# Altium schematic symbol library ICs_Memory.SchLib: 23 symbols
Pins are listed as number, name and electrical type; pins without a type are passive.

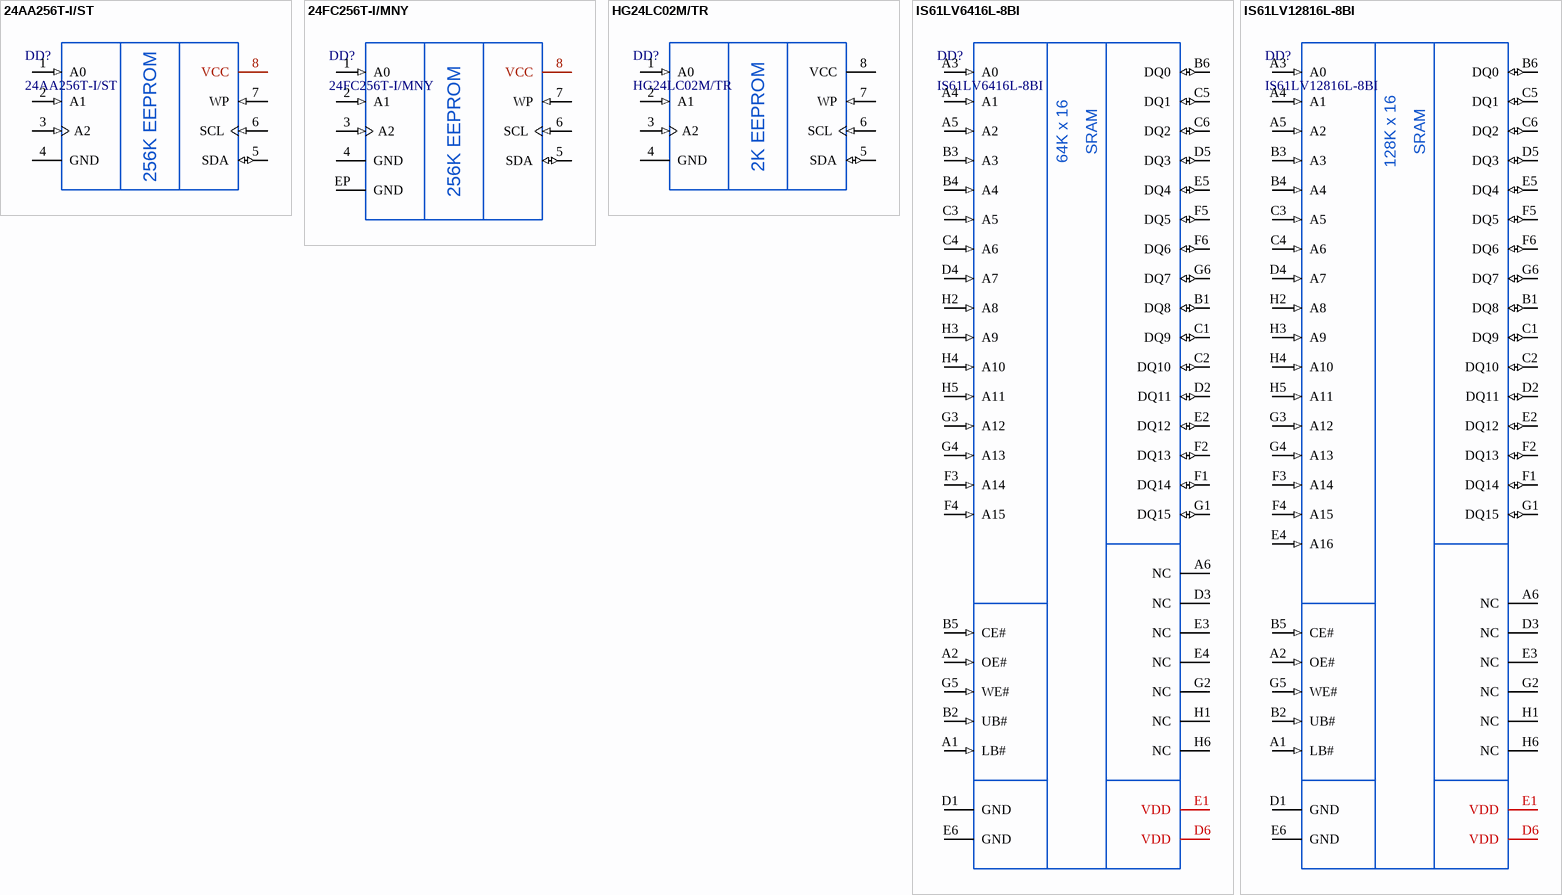
[diagram p0: symbols 24AA256T-I/ST to IS61LV12816L-8BI]

## 24AA256T-I/ST
designator DD?
400kHz 256K I2C Serial EEPROM; Manufacturer: Microchip; Marking: 4AD; ItemType: IC; Package: TSSOP-8; PartNumber: 24AA256T-I/ST; ItemSubType: EEPROM; Mounting: SMD
footprint TSSOP8_JEDEC_MO153AA (TSSOP, 8-Leads, Body 3.0x4.40mm, Pitch 0.65mm)
footprint TSSOP8_WITH_SOIC8 (TSSOP, 8-Leads, Body 3.0x4.40mm, Pitch 0.65mm)
pins: 1 A0 (in), 2 A1 (in), 3 A2 (in), 4 GND, 5 SDA (io), 6 SCL (in), 7 WP (in), 8 VCC (power)
text: 256K EEPROM

## 24FC256T-I/MNY
designator DD?
1MHz 256K I2C Serial EEPROM; Manufacturer: Microchip; Marking: EF8; ItemType: IC; Package: TDFN-8; PartNumber: 24FC256T-I/MNY; ItemSubType: EEPROM; Mounting: SMD
footprint TDFN8_EEPROM (TDFN-8 2mm x 3mm, 0.5mm pitch)
pins: 1 A0 (in), 2 A1 (in), 3 A2 (in), 4 GND, 5 SDA (io), 6 SCL (in), 7 WP (in), 8 VCC (power), EP GND
text: 256K EEPROM

## HG24LC02M/TR
designator DD?
2K I2C Serial EEPROM; Manufacturer: HGSemi; Marking: 24LC02; ItemType: IC; Package: SOIC-8; PartNumber: HG24LC02M/TR; ItemSubType: EEPROM; Mounting: SMD
footprint SOIC8_JEDEC_MS012AA (SOIC, 8-Leads, Body 3.90x4.90mm, Pitch 1.27mm)
footprint SOIC8_AND_SOT235 (SOIC, 8-Leads, Body 3.90x4.90mm, Pitch 1.27mm for EEPROM)
pins: 1 A0 (in), 2 A1 (in), 3 A2 (in), 4 GND, 5 SDA (io), 6 SCL (in), 7 WP (in), 8 VCC (power)
text: 2K EEPROM

## IS61LV6416L-8BI
designator DD?
64K X 16 High-Speed CMOS Static Ram With 3.3V Supply; Manufacturer: ISSI; AltManufacturer1: IS61LV6416-8BI; ItemType: IC; ItemSubType: SRAM; PartNumber: IS61LV6416L-8BI; Package: BGA-48; Alternative1: ISSI; Mounting: SMD
footprint BGA48_SRAM (BGA, 48-Leads, Body 6.00x8.00mmx1.20mm, Pitch 0.75mm)
pins: A1 LB# (in), A2 OE# (in), A3 A0 (in), A4 A1 (in), A5 A2 (in), A6 NC (hiz), B1 DQ8 (io), B2 UB# (in), B3 A3 (in), B4 A4 (in), B5 CE# (in), B6 DQ0 (io), C1 DQ9 (io), C2 DQ10 (io), C3 A5 (in), C4 A6 (in), C5 DQ1 (io), C6 DQ2 (io), D1 GND, D2 DQ11 (io), D3 NC (hiz), D4 A7 (in), D5 DQ3 (io), D6 VDD (power), E1 VDD (power), E2 DQ12 (io), E3 NC (hiz), E4 NC (hiz), E5 DQ4 (io), E6 GND, F1 DQ14 (io), F2 DQ13 (io), F3 A14 (in), F4 A15 (in), F5 DQ5 (io), F6 DQ6 (io), G1 DQ15 (io), G2 NC (hiz), G3 A12 (in), G4 A13 (in), G5 WE# (in), G6 DQ7 (io), H1 NC (hiz), H2 A8 (in), H3 A9 (in), H4 A10 (in), H5 A11 (in), H6 NC (hiz)
text: 64K x 16

## IS61LV12816L-8BI
designator DD?
128K X 16 High-Speed CMOS Static Ram With 3.3V Supply; Manufacturer: ISSO; ItemType: IC; ItemSubType: SRAM; PartNumber: IS61LV12816L-8BI; Package: BGA-48; Mounting: SMD
footprint BGA48_SRAM (BGA, 48-Leads, Body 6.00x8.00mmx1.20mm, Pitch 0.75mm)
pins: A1 LB# (in), A2 OE# (in), A3 A0 (in), A4 A1 (in), A5 A2 (in), A6 NC (hiz), B1 DQ8 (io), B2 UB# (in), B3 A3 (in), B4 A4 (in), B5 CE# (in), B6 DQ0 (io), C1 DQ9 (io), C2 DQ10 (io), C3 A5 (in), C4 A6 (in), C5 DQ1 (io), C6 DQ2 (io), D1 GND, D2 DQ11 (io), D3 NC (hiz), D4 A7 (in), D5 DQ3 (io), D6 VDD (power), E1 VDD (power), E2 DQ12 (io), E3 NC (hiz), E4 A16 (in), E5 DQ4 (io), E6 GND, F1 DQ14 (io), F2 DQ13 (io), F3 A14 (in), F4 A15 (in), F5 DQ5 (io), F6 DQ6 (io), G1 DQ15 (io), G2 NC (hiz), G3 A12 (in), G4 A13 (in), G5 WE# (in), G6 DQ7 (io), H1 NC (hiz), H2 A8 (in), H3 A9 (in), H4 A10 (in), H5 A11 (in), H6 NC (hiz)
text: 128K x 16

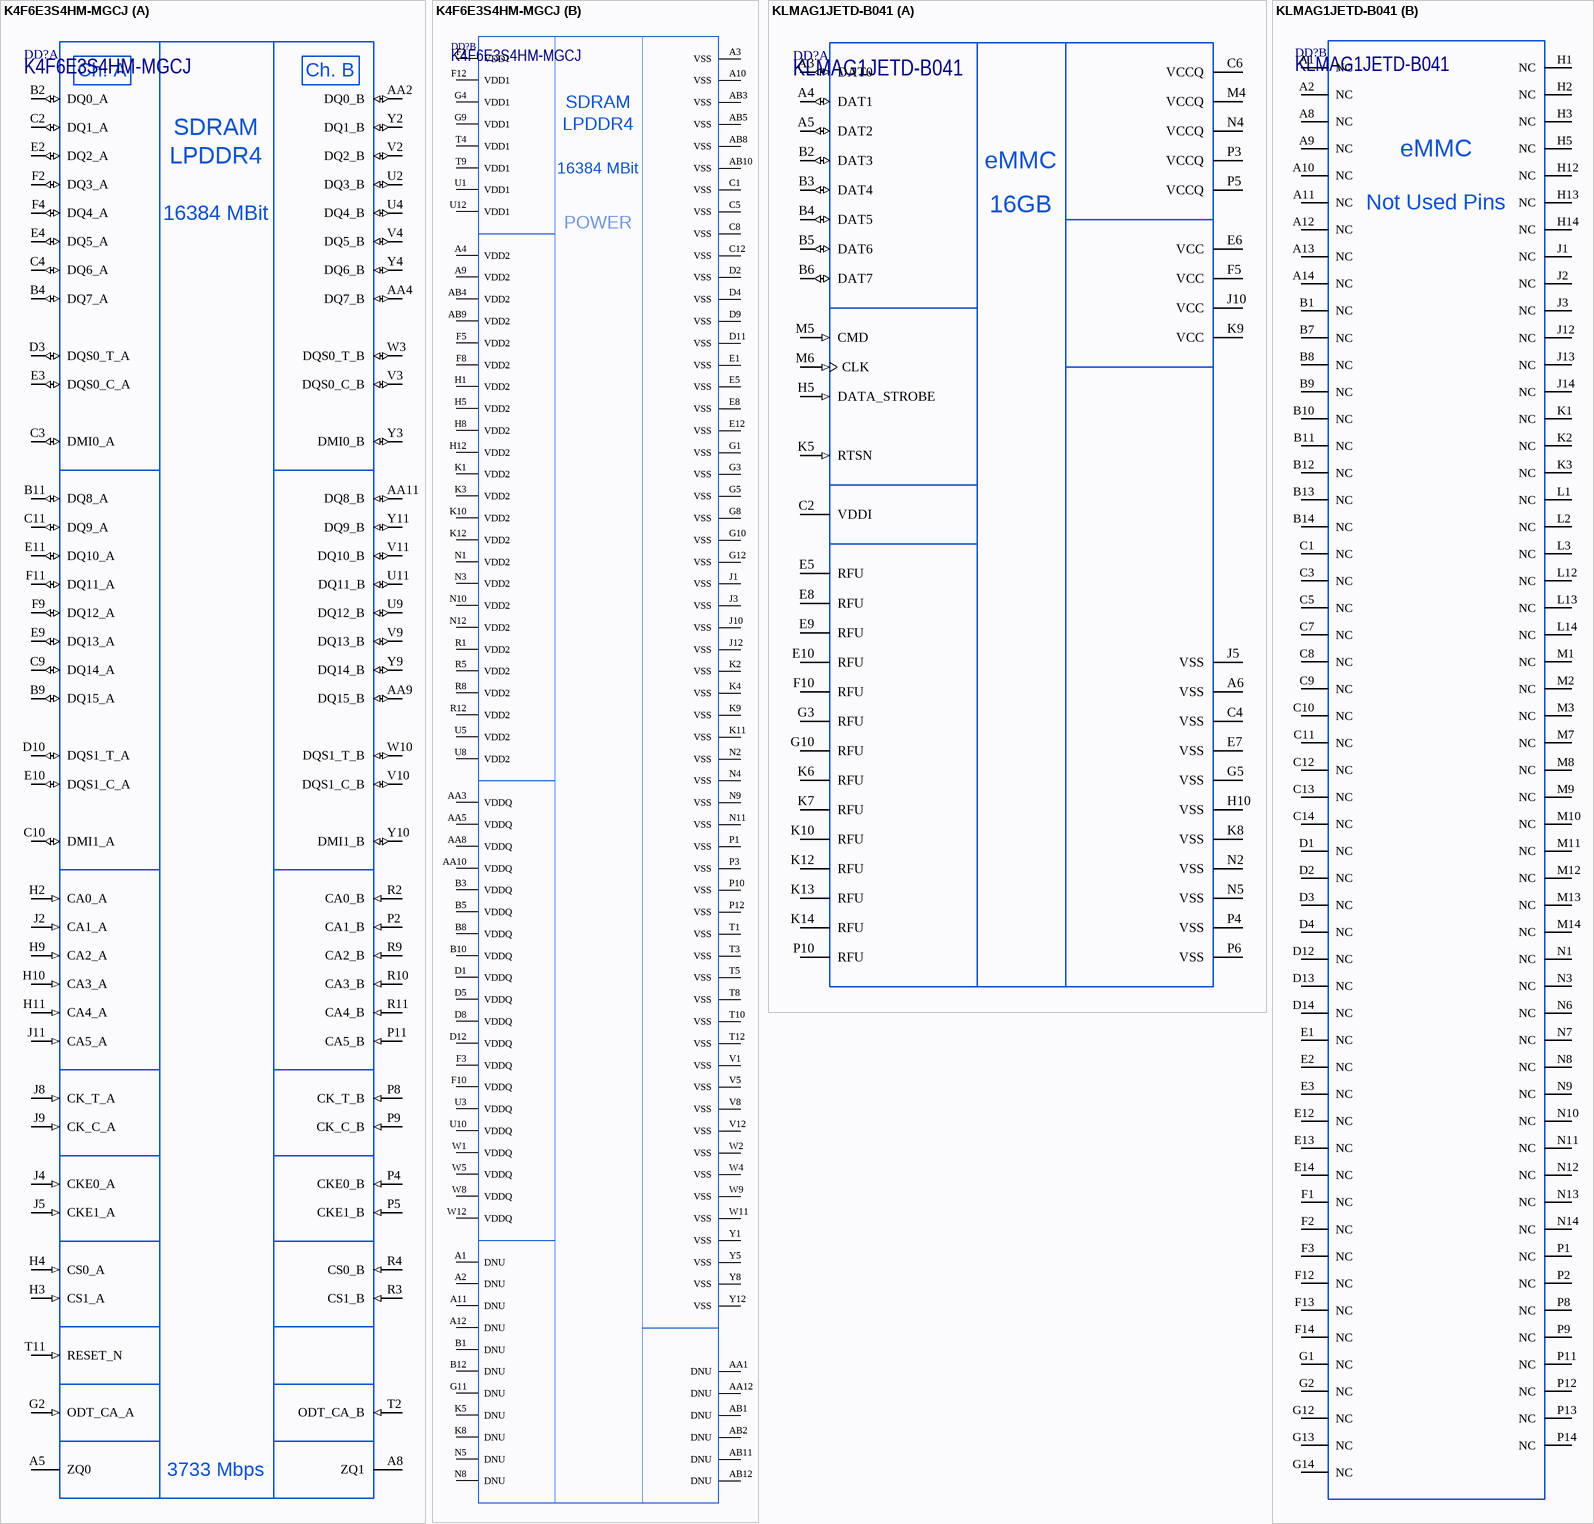
[diagram p1: symbols K4F6E3S4HM-MGCJ to KLMAG1JETD-B041]

## K4F6E3S4HM-MGCJ
designator DD?
16Gb LPDDR4 SDRAM (64Mb x 16 DQ x 8 banks x 2 channels); Manufacturer: Samsung; ItemType: IC; Package: FBGA-200 (10x15mm); PartNumber: K4F6E3S4HM-MGCJ; ItemSubType: LPDDR4; Mounting: SMD
footprint FBGA200_LPDDR4 (BGA, 200-Leads, Body 10,00x15,00mmx0,90mm, Pitch 0,65mm)
part A pins: A5 ZQ0, A8 ZQ1, AA2 DQ0_B (io), AA4 DQ7_B (io), AA9 DQ15_B (io), AA11 DQ8_B (io), B2 DQ0_A (io), B4 DQ7_A (io), B9 DQ15_A (io), B11 DQ8_A (io), C2 DQ1_A (io), C3 DMI0_A (io), C4 DQ6_A (io), C9 DQ14_A (io), C10 DMI1_A (io), C11 DQ9_A (io), D3 DQS0_T_A (io), D10 DQS1_T_A (io), E2 DQ2_A (io), E3 DQS0_C_A (io), E4 DQ5_A (io), E9 DQ13_A (io), E10 DQS1_C_A (io), E11 DQ10_A (io), F2 DQ3_A (io), F4 DQ4_A (io), F9 DQ12_A (io), F11 DQ11_A (io), G2 ODT_CA_A (in), H2 CA0_A (in), H3 CS1_A (in), H4 CS0_A (in), H9 CA2_A (in), H10 CA3_A (in), H11 CA4_A (in), J2 CA1_A (in), J4 CKE0_A (in), J5 CKE1_A (in), J8 CK_T_A (in), J9 CK_C_A (in), J11 CA5_A (in), P2 CA1_B (in), P4 CKE0_B (in), P5 CKE1_B (in), P8 CK_T_B (in), P9 CK_C_B (in), P11 CA5_B (in), R2 CA0_B (in), R3 CS1_B (in), R4 CS0_B (in), R9 CA2_B (in), R10 CA3_B (in), R11 CA4_B (in), T2 ODT_CA_B (in), T11 RESET_N (in), U2 DQ3_B (io), U4 DQ4_B (io), U9 DQ12_B (io), U11 DQ11_B (io), V2 DQ2_B (io), V3 DQS0_C_B (io), V4 DQ5_B (io), V9 DQ13_B (io), V10 DQS1_C_B (io), V11 DQ10_B (io), W3 DQS0_T_B (io), W10 DQS1_T_B (io), Y2 DQ1_B (io), Y3 DMI0_B (io), Y4 DQ6_B (io), Y9 DQ14_B (io), Y10 DMI1_B (io), Y11 DQ9_B (io)
part B pins: A1 DNU (hiz), A2 DNU (hiz), A3 VSS, A4 VDD2 (power), A9 VDD2 (power), A10 VSS, A11 DNU (hiz), A12 DNU (hiz), AA1 DNU (hiz), AA3 VDDQ (power), AA5 VDDQ (power), AA8 VDDQ (power), AA10 VDDQ (power), AA12 DNU (hiz), AB1 DNU (hiz), AB2 DNU (hiz), AB3 VSS, AB4 VDD2 (power), AB5 VSS, AB8 VSS, AB9 VDD2 (power), AB10 VSS, AB11 DNU (hiz), AB12 DNU (hiz), B1 DNU (hiz), B3 VDDQ (power), B5 VDDQ (power), B8 VDDQ (power), B10 VDDQ (power), B12 DNU (hiz), C1 VSS, C5 VSS, C8 VSS, C12 VSS, D1 VDDQ (power), D2 VSS, D4 VSS, D5 VDDQ (power), D8 VDDQ (power), D9 VSS, D11 VSS, D12 VDDQ (power), E1 VSS, E5 VSS, E8 VSS, E12 VSS, F1 VDD1 (power), F3 VDDQ (power), F5 VDD2 (power), F8 VDD2 (power), F10 VDDQ (power), F12 VDD1 (power), G1 VSS, G3 VSS, G4 VDD1 (power), G5 VSS, G8 VSS, G9 VDD1 (power), G10 VSS, G11 DNU (hiz), G12 VSS, H1 VDD2 (power), H5 VDD2 (power), H8 VDD2 (power), H12 VDD2 (power), J1 VSS, J3 VSS, J10 VSS, J12 VSS, K1 VDD2 (power), K2 VSS, K3 VDD2 (power), K4 VSS, K5 DNU (hiz), K8 DNU (hiz), K9 VSS, K10 VDD2 (power), K11 VSS, K12 VDD2 (power), N1 VDD2 (power), N2 VSS, N3 VDD2 (power), N4 VSS, N5 DNU (hiz), N8 DNU (hiz), N9 VSS, N10 VDD2 (power), N11 VSS, N12 VDD2 (power), P1 VSS, P3 VSS, P10 VSS, P12 VSS, R1 VDD2 (power), R5 VDD2 (power), R8 VDD2 (power), R12 VDD2 (power), T1 VSS, T3 VSS, T4 VDD1 (power), T5 VSS, T8 VSS, T9 VDD1 (power), T10 VSS, T12 VSS, U1 VDD1 (power), U3 VDDQ (power), U5 VDD2 (power), U8 VDD2 (power), U10 VDDQ (power), U12 VDD1 (power), V1 VSS, V5 VSS, V8 VSS, V12 VSS, W1 VDDQ (power), W2 VSS, W4 VSS, W5 VDDQ (power), W8 VDDQ (power), W9 VSS, W11 VSS, W12 VDDQ (power), Y1 VSS, Y5 VSS, Y8 VSS, Y12 VSS
part A text: Ch. A; Ch. B; SDRAM; 16384 MBit; 3733 Mbps
part B text: SDRAM; 16384 MBit; POWER

## KLMAG1JETD-B041
designator DD?
eMMC 5.1 Flash memory, 16GB; Manufacturer: Samsung; ItemType: IC; Package: BGA-153 (11.5x13mm); PartNumber: KLMAG1JETD-B041; ItemSubType: eMMC; Mounting: SMD
footprint WFBGA-153 (WFBGA-153, 153-Leads, Body 11.50x13.00mm, Pitch 0.50mm)
part A pins: A3 DAT0 (io), A4 DAT1 (io), A5 DAT2 (io), A6 VSS, B2 DAT3 (io), B3 DAT4 (io), B4 DAT5 (io), B5 DAT6 (io), B6 DAT7 (io), C2 VDDI (power), C4 VSS, C6 VCCQ (power), E5 RFU (hiz), E6 VCC (power), E7 VSS, E8 RFU (hiz), E9 RFU (hiz), E10 RFU (hiz), F5 VCC (power), F10 RFU (hiz), G3 RFU (hiz), G5 VSS, G10 RFU (hiz), H5 DATA_STROBE (in), H10 VSS, J5 VSS, J10 VCC (power), K5 RTSN (in), K6 RFU (hiz), K7 RFU (hiz), K8 VSS, K9 VCC (power), K10 RFU (hiz), K12 RFU (hiz), K13 RFU (hiz), K14 RFU (hiz), M4 VCCQ (power), M5 CMD (in), M6 CLK (in), N2 VSS, N4 VCCQ (power), N5 VSS, P3 VCCQ (power), P4 VSS, P5 VCCQ (power), P6 VSS, P10 RFU (hiz)
part B pins: A1 NC (hiz), A2 NC (hiz), A8 NC (hiz), A9 NC (hiz), A10 NC (hiz), A11 NC (hiz), A12 NC (hiz), A13 NC (hiz), A14 NC (hiz), B1 NC (hiz), B7 NC (hiz), B8 NC (hiz), B9 NC (hiz), B10 NC (hiz), B11 NC (hiz), B12 NC (hiz), B13 NC (hiz), B14 NC (hiz), C1 NC (hiz), C3 NC (hiz), C5 NC (hiz), C7 NC (hiz), C8 NC (hiz), C9 NC (hiz), C10 NC (hiz), C11 NC (hiz), C12 NC (hiz), C13 NC (hiz), C14 NC (hiz), D1 NC (hiz), D2 NC (hiz), D3 NC (hiz), D4 NC (hiz), D12 NC (hiz), D13 NC (hiz), D14 NC (hiz), E1 NC (hiz), E2 NC (hiz), E3 NC (hiz), E12 NC (hiz), E13 NC (hiz), E14 NC (hiz), F1 NC (hiz), F2 NC (hiz), F3 NC (hiz), F12 NC (hiz), F13 NC (hiz), F14 NC (hiz), G1 NC (hiz), G2 NC (hiz), G12 NC (hiz), G13 NC (hiz), G14 NC (hiz), H1 NC (hiz), H2 NC (hiz), H3 NC (hiz), H5 NC (hiz), H12 NC (hiz), H13 NC (hiz), H14 NC (hiz), J1 NC (hiz), J2 NC (hiz), J3 NC (hiz), J12 NC (hiz), J13 NC (hiz), J14 NC (hiz), K1 NC (hiz), K2 NC (hiz), K3 NC (hiz), L1 NC (hiz), L2 NC (hiz), L3 NC (hiz), L12 NC (hiz), L13 NC (hiz), L14 NC (hiz), M1 NC (hiz), M2 NC (hiz), M3 NC (hiz), M7 NC (hiz), M8 NC (hiz), M9 NC (hiz), M10 NC (hiz), M11 NC (hiz), M12 NC (hiz), M13 NC (hiz), M14 NC (hiz), N1 NC (hiz), N3 NC (hiz), N6 NC (hiz), N7 NC (hiz), N8 NC (hiz), N9 NC (hiz), N10 NC (hiz), N11 NC (hiz), N12 NC (hiz), N13 NC (hiz), N14 NC (hiz), P1 NC (hiz), P2 NC (hiz), P8 NC (hiz), P9 NC (hiz), P11 NC (hiz), P12 NC (hiz), P13 NC (hiz), P14 NC (hiz)
part A text: 16GB
part B text: Not Used Pins

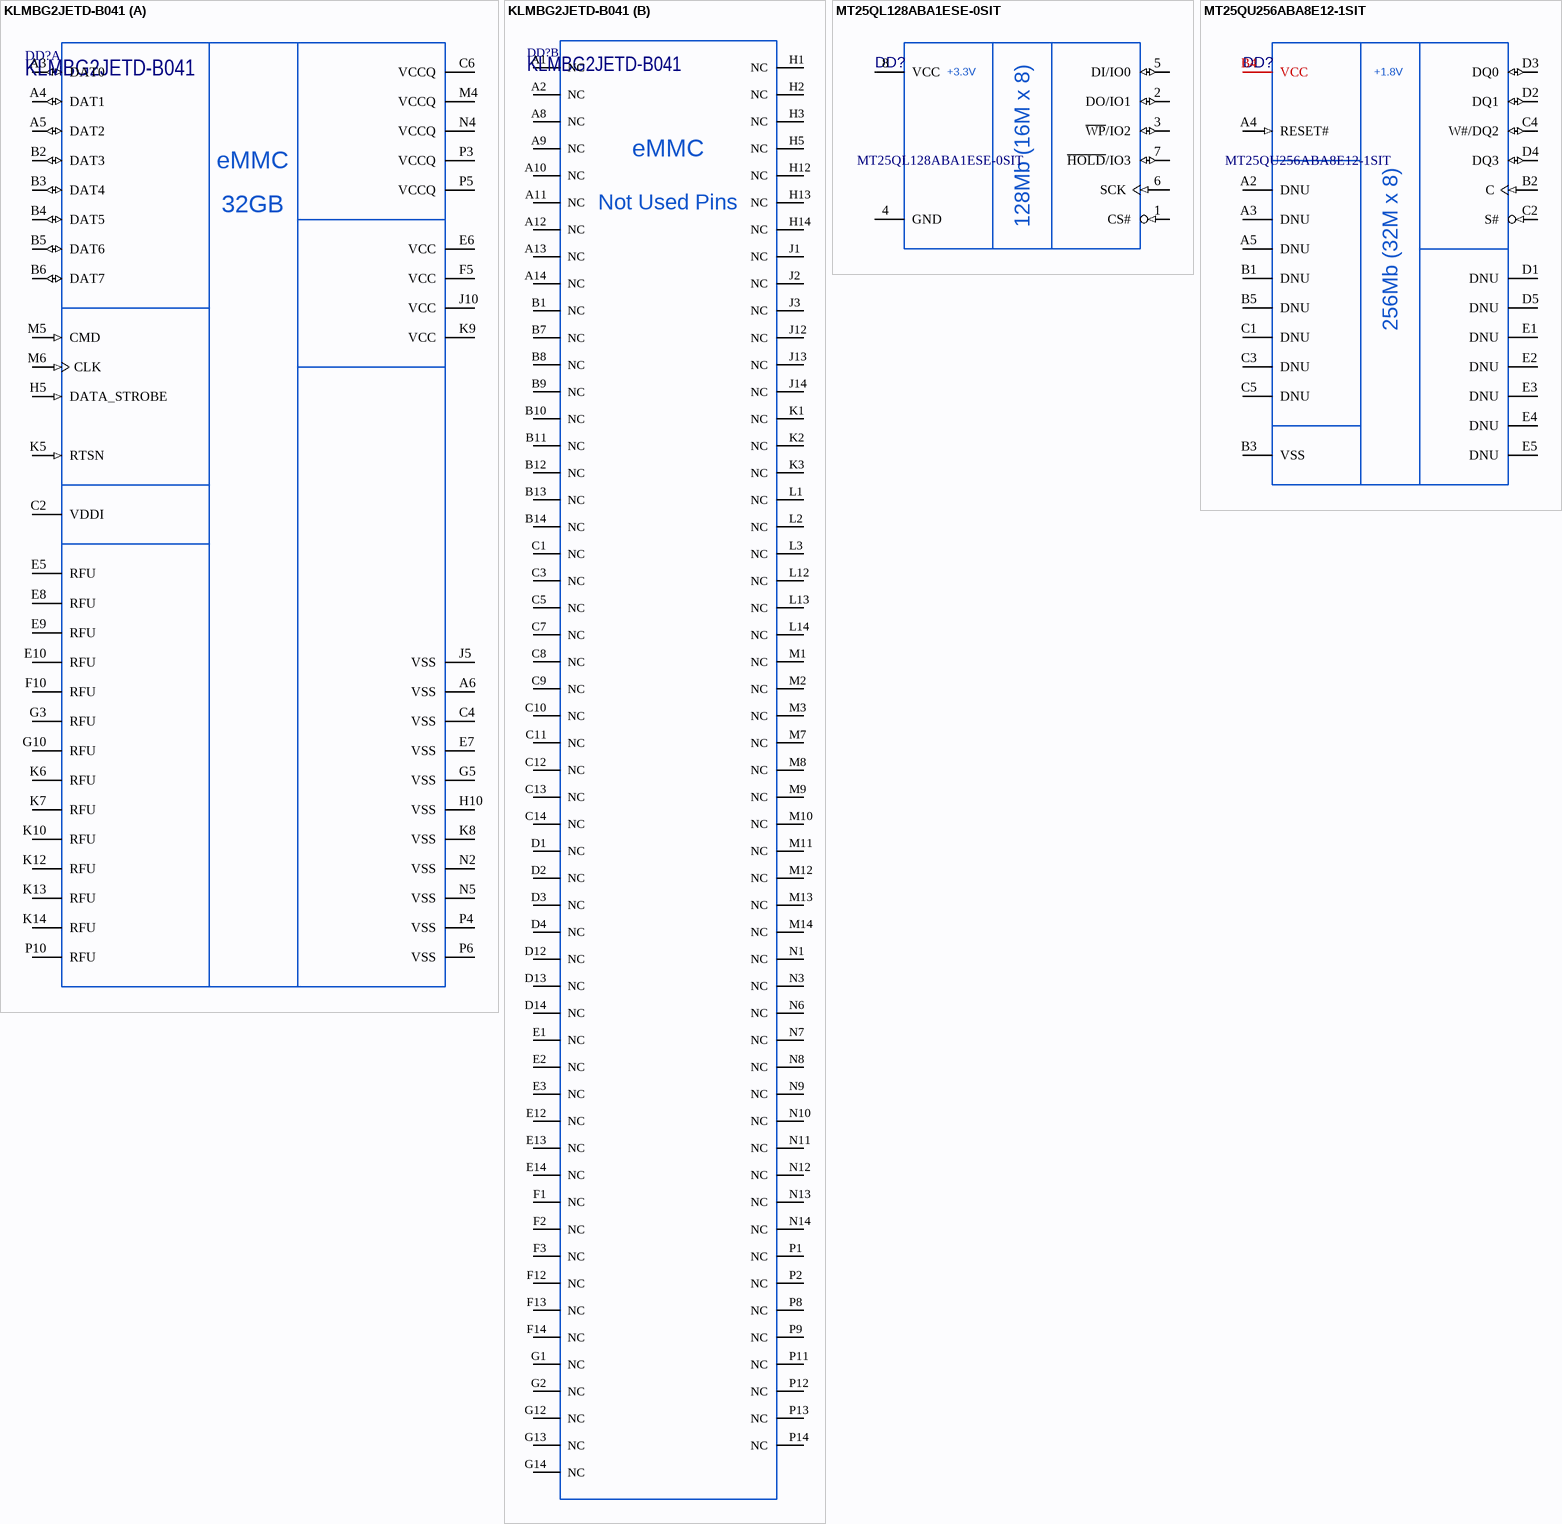
[diagram p2: symbols KLMBG2JETD-B041 to MT25QU256ABA8E12-1SIT]

## KLMBG2JETD-B041
designator DD?
eMMC 5.1 Flash memory, 32GB; Manufacturer: Samsung; ItemType: IC; Package: BGA-153 (11.5x13mm); PartNumber: KLMBG2JETD-B041; ItemSubType: eMMC; Mounting: SMD
footprint WFBGA-153 (WFBGA-153, 153-Leads, Body 11.50x13.00mm, Pitch 0.50mm)
part A pins: A3 DAT0 (io), A4 DAT1 (io), A5 DAT2 (io), A6 VSS, B2 DAT3 (io), B3 DAT4 (io), B4 DAT5 (io), B5 DAT6 (io), B6 DAT7 (io), C2 VDDI (power), C4 VSS, C6 VCCQ (power), E5 RFU (hiz), E6 VCC (power), E7 VSS, E8 RFU (hiz), E9 RFU (hiz), E10 RFU (hiz), F5 VCC (power), F10 RFU (hiz), G3 RFU (hiz), G5 VSS, G10 RFU (hiz), H5 DATA_STROBE (in), H10 VSS, J5 VSS, J10 VCC (power), K5 RTSN (in), K6 RFU (hiz), K7 RFU (hiz), K8 VSS, K9 VCC (power), K10 RFU (hiz), K12 RFU (hiz), K13 RFU (hiz), K14 RFU (hiz), M4 VCCQ (power), M5 CMD (in), M6 CLK (in), N2 VSS, N4 VCCQ (power), N5 VSS, P3 VCCQ (power), P4 VSS, P5 VCCQ (power), P6 VSS, P10 RFU (hiz)
part B pins: A1 NC (hiz), A2 NC (hiz), A8 NC (hiz), A9 NC (hiz), A10 NC (hiz), A11 NC (hiz), A12 NC (hiz), A13 NC (hiz), A14 NC (hiz), B1 NC (hiz), B7 NC (hiz), B8 NC (hiz), B9 NC (hiz), B10 NC (hiz), B11 NC (hiz), B12 NC (hiz), B13 NC (hiz), B14 NC (hiz), C1 NC (hiz), C3 NC (hiz), C5 NC (hiz), C7 NC (hiz), C8 NC (hiz), C9 NC (hiz), C10 NC (hiz), C11 NC (hiz), C12 NC (hiz), C13 NC (hiz), C14 NC (hiz), D1 NC (hiz), D2 NC (hiz), D3 NC (hiz), D4 NC (hiz), D12 NC (hiz), D13 NC (hiz), D14 NC (hiz), E1 NC (hiz), E2 NC (hiz), E3 NC (hiz), E12 NC (hiz), E13 NC (hiz), E14 NC (hiz), F1 NC (hiz), F2 NC (hiz), F3 NC (hiz), F12 NC (hiz), F13 NC (hiz), F14 NC (hiz), G1 NC (hiz), G2 NC (hiz), G12 NC (hiz), G13 NC (hiz), G14 NC (hiz), H1 NC (hiz), H2 NC (hiz), H3 NC (hiz), H5 NC (hiz), H12 NC (hiz), H13 NC (hiz), H14 NC (hiz), J1 NC (hiz), J2 NC (hiz), J3 NC (hiz), J12 NC (hiz), J13 NC (hiz), J14 NC (hiz), K1 NC (hiz), K2 NC (hiz), K3 NC (hiz), L1 NC (hiz), L2 NC (hiz), L3 NC (hiz), L12 NC (hiz), L13 NC (hiz), L14 NC (hiz), M1 NC (hiz), M2 NC (hiz), M3 NC (hiz), M7 NC (hiz), M8 NC (hiz), M9 NC (hiz), M10 NC (hiz), M11 NC (hiz), M12 NC (hiz), M13 NC (hiz), M14 NC (hiz), N1 NC (hiz), N3 NC (hiz), N6 NC (hiz), N7 NC (hiz), N8 NC (hiz), N9 NC (hiz), N10 NC (hiz), N11 NC (hiz), N12 NC (hiz), N13 NC (hiz), N14 NC (hiz), P1 NC (hiz), P2 NC (hiz), P8 NC (hiz), P9 NC (hiz), P11 NC (hiz), P12 NC (hiz), P13 NC (hiz), P14 NC (hiz)
part A text: 32GB
part B text: Not Used Pins

## MT25QL128ABA1ESE-0SIT
designator DD?
128M-BIT SERIAL FLASH MEMORY WITH DUAL AND QUAD SPI; Manufacturer: Micron; ItemType: IC; PartNumber: MT25QL128ABA1ESE-0SIT; Package: SOIC-8 (208 mil); ItemSubType: Flash; Mounting: SMD
footprint SOIC8_208 (SOIC, 8-Leads, Body 5.28x5.21mm, Pitch 1.27mm)
footprint SOIC8_208_AND_SOIC16N (SOIC, 8-Leads, Body 4.50x4.50mm, Pitch 1.27mm, Thermal Pad 4.20x4.20mm, IPC Medium Density with SOIC 16-Leads, Body 10.29x7.49mm, Pitch 1.27mm, IPC Medium Density)
pins: 1 CS# (in) "GND", 2 DO/IO1 (io) "GND", 3 ~{WP}/IO2 (io) "GND", 4 GND, 5 DI/IO0 (io) "GND", 6 SCK (in) "GND", 7 ~{HOLD}/IO3 (io) "GND", 8 VCC (power) "GND"
1 alternate drawing of the same symbol
text: +3.3V; 128Mb (16M x 8)

## MT25QU256ABA8E12-1SIT
designator DD?
1.8V 256M-BIT SERIAL FLASH MEMORY WITH DUAL AND QUAD SPI; Manufacturer: Micron; ItemType: IC; PartNumber: MT25QU256ABA8E12-1SIT; Package: TFBGA-24; ItemSubType: Flash; Mounting: SMD
footprint TFBGA-24 (BGA, 24-Leads, Body 6.00mm x 8.00mm x 1.20mm, Pitch 1.00mm)
pins: A2 DNU (hiz) "GND", A3 DNU (hiz) "GND", A4 RESET# (in) "GND", A5 DNU (hiz) "GND", B1 DNU (hiz) "GND", B2 C (in) "GND", B3 VSS "GND", B4 VCC (power), B5 DNU (hiz) "GND", C1 DNU (hiz) "GND", C2 S# (in) "GND", C3 DNU (hiz) "GND", C4 W#/DQ2 (io) "GND", C5 DNU (hiz) "GND", D1 DNU (hiz) "GND", D2 DQ1 (io) "GND", D3 DQ0 (io) "GND", D4 DQ3 (io) "GND", D5 DNU (hiz) "GND", E1 DNU (hiz) "GND", E2 DNU (hiz) "GND", E3 DNU (hiz) "GND", E4 DNU (hiz) "GND", E5 DNU (hiz) "GND"
1 alternate drawing of the same symbol
text: +1.8V; 256Mb (32M x 8)

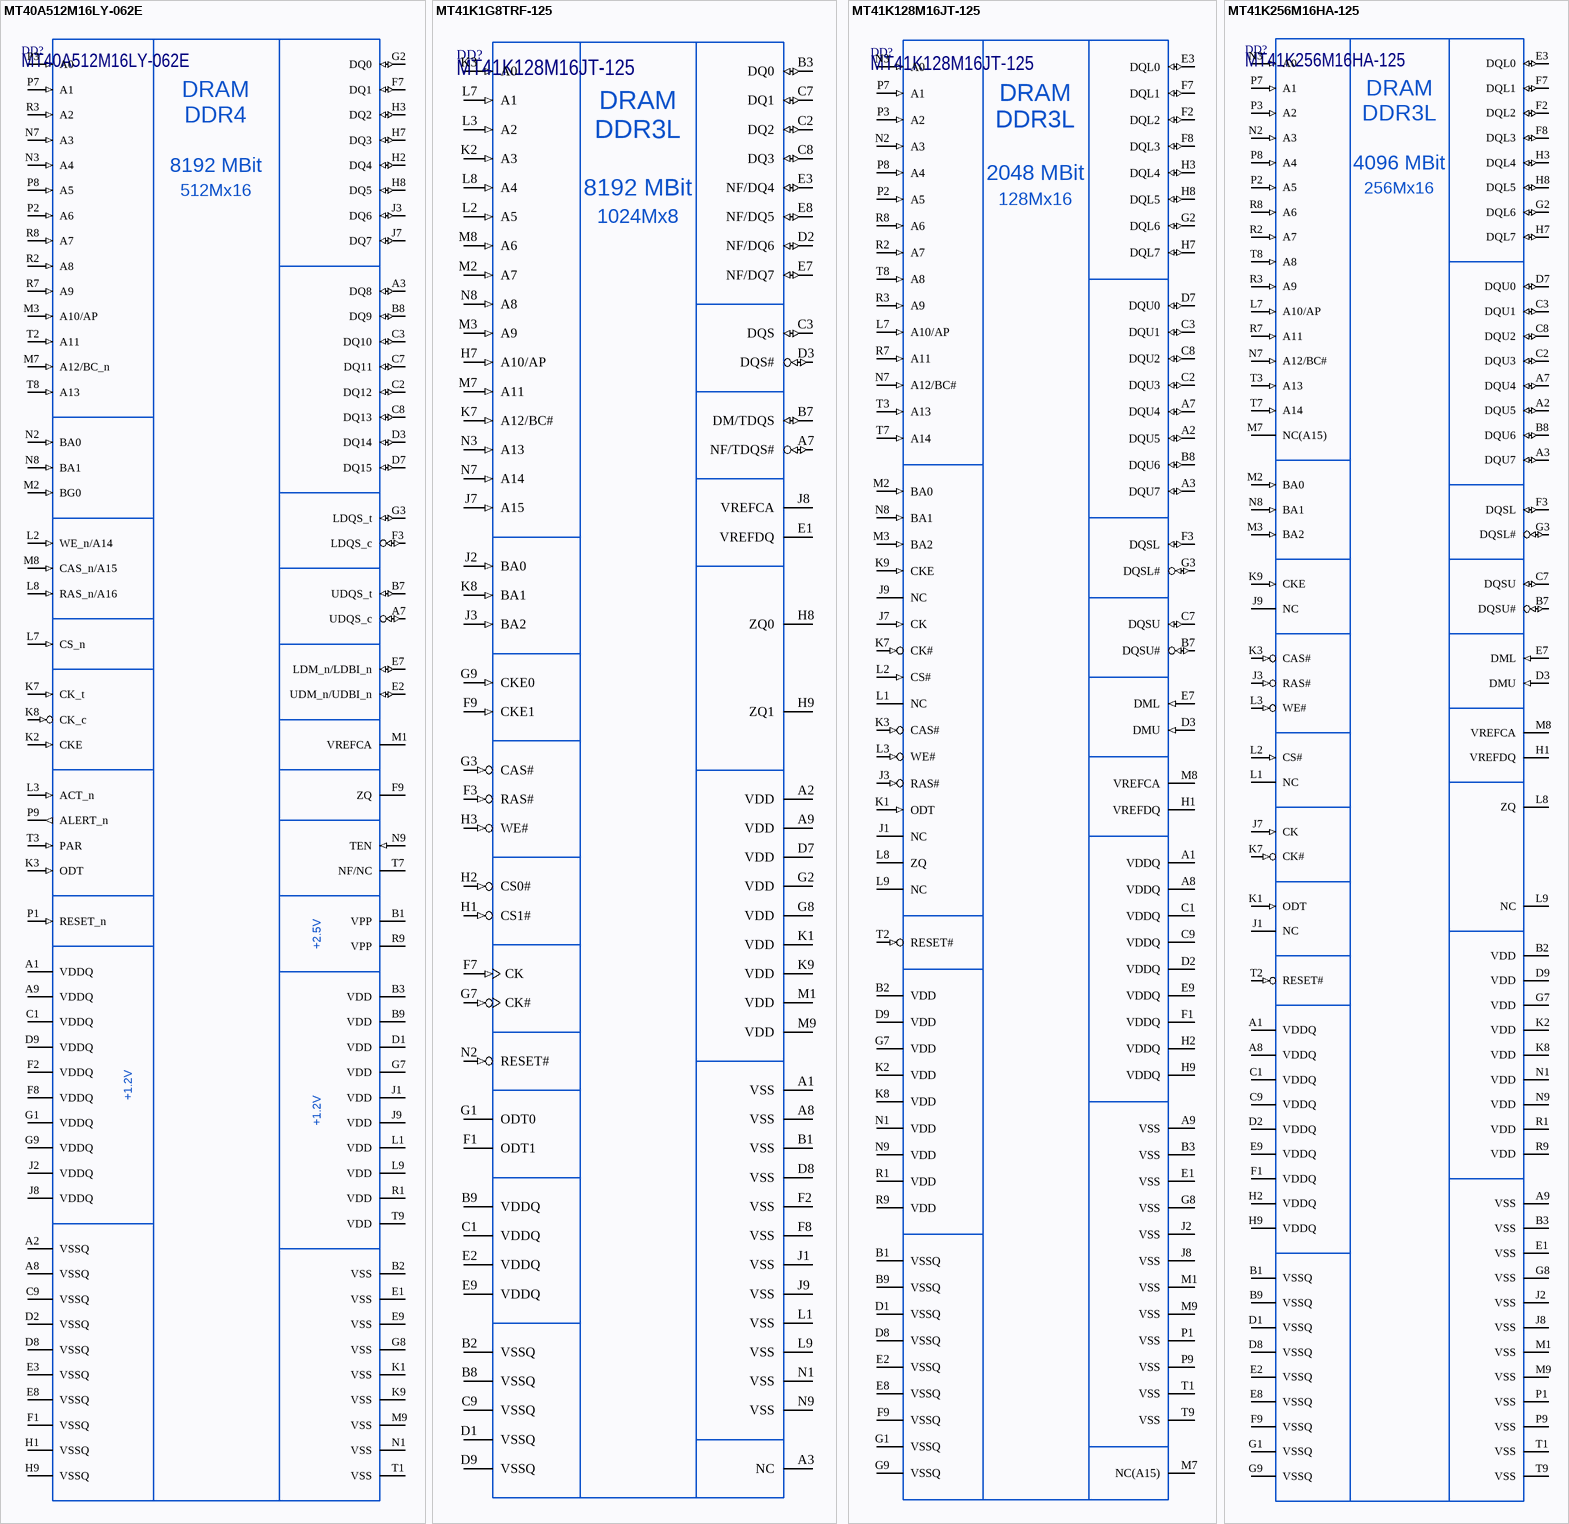
[diagram p3: symbols MT40A512M16LY-062E to MT41K256M16HA-125]

## MT40A512M16LY-062E
designator DD?
512Mx16 8Gb DDR4 SDRAM; Manufacturer: Micron Technology; ItemType: IC; Package: FBGA-96 (7.5x13.5mm); PartNumber: MT40A512M16LY-062E; ItemSubType: DDR4; Mounting: SMD
footprint FBGA96_DDR4_7.5x13.5 (Micron FBGA-96 package (Mark LY) with 0.8mm pitch, 7.5x13.5mm)
pins: A1 VDDQ (power), A2 VSSQ, A3 DQ8 (io), A7 UDQS_c (io), A8 VSSQ, A9 VDDQ (power), B1 VPP (power), B2 VSS, B3 VDD (power), B7 UDQS_t (io), B8 DQ9 (io), B9 VDD (power), C1 VDDQ, C2 DQ12 (io), C3 DQ10 (io), C7 DQ11 (io), C8 DQ13 (io), C9 VSSQ, D1 VDD (power), D2 VSSQ, D3 DQ14 (io), D7 DQ15 (io), D8 VSSQ, D9 VDDQ (power), E1 VSS, E2 UDM_n/UDBI_n (io), E3 VSSQ, E7 LDM_n/LDBI_n (io), E8 VSSQ, E9 VSS, F1 VSSQ, F2 VDDQ (power), F3 LDQS_c (io), F7 DQ1 (io), F8 VDDQ (power), F9 ZQ, G1 VDDQ (power), G2 DQ0 (io), G3 LDQS_t (io), G7 VDD (power), G8 VSS, G9 VDDQ (power), H1 VSSQ, H2 DQ4 (io), H3 DQ2 (io), H7 DQ3 (io), H8 DQ5 (io), H9 VSSQ, J1 VDD (power), J2 VDDQ (power), J3 DQ6 (io), J7 DQ7 (io), J8 VDDQ (power), J9 VDD (power), K1 VSS, K2 CKE (in), K3 ODT (in), K7 CK_t (in), K8 CK_c (in), K9 VSS, L1 VDD (power), L2 WE_n/A14 (in), L3 ACT_n (in), L7 CS_n (in), L8 RAS_n/A16 (in), L9 VDD (power), M1 VREFCA, M2 BG0 (in), M3 A10/AP (in), M7 A12/BC_n (in), M8 CAS_n/A15 (in), M9 VSS, N1 VSS, N2 BA0 (in), N3 A4 (in), N7 A3 (in), N8 BA1 (in), N9 TEN (in), P1 RESET_n (in), P2 A6 (in), P3 A0 (in), P7 A1 (in), P8 A5 (in), P9 ALERT_n (out), R1 VDD (power), R2 A8 (in), R3 A2 (in), R7 A9 (in), R8 A7 (in), R9 VPP (power), T1 VSS, T2 A11 (in), T3 PAR (in), T7 NF/NC (hiz), T8 A13 (in), T9 VDD (power)
text: DRAM; 8192 MBit; 512Mx16; +2.5V; +1.2V

## MT41K1G8TRF-125
designator DD?, comment MT41K128M16JT-125
1024Mx8 8Gb DDR3L SDRAM, 64 Meg x 8 x 8 banks x 2 ranks; Manufacturer: Micron Technology; ItemType: IC; Package: FBGA-78 (9.5x11.5mm); PartNumber: MT41K128M16JT-125; ItemSubType: DDR3L; Mounting: SMD
footprint FBGA78_DDR3L_9.5x11.5 (BGA, 78-Leads, Body 9,50x11,50mmx1,10mm, Pitch 0,80mm)
pins: A1 VSS, A2 VDD (power), A3 NC (hiz), A7 NF/TDQS# (io), A8 VSS, A9 VDD (power), B1 VSS, B2 VSSQ, B3 DQ0 (io), B7 DM/TDQS (io), B8 VSSQ, B9 VDDQ (power), C1 VDDQ (power), C2 DQ2 (io), C3 DQS (io), C7 DQ1 (io), C8 DQ3 (io), C9 VSSQ, D1 VSSQ, D2 NF/DQ6 (io), D3 DQS# (io), D7 VDD (power), D8 VSS, D9 VSSQ, E1 VREFDQ, E2 VDDQ (power), E3 NF/DQ4 (io), E7 NF/DQ7 (io), E8 NF/DQ5 (io), E9 VDDQ (power), F1 ODT1, F2 VSS, F3 RAS# (in), F7 CK (in), F8 VSS, F9 CKE1 (in), G1 ODT0, G2 VDD (power), G3 CAS# (in), G7 CK# (in), G8 VDD (power), G9 CKE0 (in), H1 CS1# (in), H2 CS0# (in), H3 WE# (in), H7 A10/AP (in), H8 ZQ0, H9 ZQ1, J1 VSS, J2 BA0 (in), J3 BA2 (in), J7 A15 (in), J8 VREFCA, J9 VSS, K1 VDD (power), K2 A3 (in), K3 A0 (in), K7 A12/BC# (in), K8 BA1 (in), K9 VDD (power), L1 VSS, L2 A5 (in), L3 A2 (in), L7 A1 (in), L8 A4 (in), L9 VSS, M1 VDD (power), M2 A7 (in), M3 A9 (in), M7 A11 (in), M8 A6 (in), M9 VDD (power), N1 VSS, N2 RESET# (in), N3 A13 (in), N7 A14 (in), N8 A8 (in), N9 VSS
text: DRAM; 8192 MBit; 1024Mx8

## MT41K128M16JT-125
designator DD?
128Mx16 2Gb DDR3L SDRAM; Manufacturer: Micron Technology; ItemType: IC; Package: FBGA-96 (8x14mm); PartNumber: MT41K128M16JT-125; ItemSubType: DDR3L; Mounting: SMD
footprint FBGA96_DDR3L_8x14 (Micron FBGA-96 package with 0.8mm pitch, 8x14mm)
pins: A1 VDDQ (power), A2 DQU5 (io), A3 DQU7 (io), A7 DQU4 (io), A8 VDDQ (power), A9 VSS (power), B1 VSSQ (power), B2 VDD (power), B3 VSS (power), B7 DQSU# (io), B8 DQU6 (io), B9 VSSQ (power), C1 VDDQ (power), C2 DQU3 (io), C3 DQU1 (io), C7 DQSU (io), C8 DQU2 (io), C9 VDDQ (power), D1 VSSQ (power), D2 VDDQ (power), D3 DMU (in), D7 DQU0 (io), D8 VSSQ (power), D9 VDD (power), E1 VSS (power), E2 VSSQ (power), E3 DQL0 (io), E7 DML (in), E8 VSSQ (power), E9 VDDQ (power), F1 VDDQ (power), F2 DQL2 (io), F3 DQSL (io), F7 DQL1 (io), F8 DQL3 (io), F9 VSSQ (power), G1 VSSQ (power), G2 DQL6 (io), G3 DQSL# (io), G7 VDD (power), G8 VSS (power), G9 VSSQ (power), H1 VREFDQ (power), H2 VDDQ (power), H3 DQL4 (io), H7 DQL7 (io), H8 DQL5 (io), H9 VDDQ (power), J1 NC (hiz), J2 VSS (power), J3 RAS# (in), J7 CK (in), J8 VSS (power), J9 NC (hiz), K1 ODT (in), K2 VDD (power), K3 CAS# (in), K7 CK# (in), K8 VDD (power), K9 CKE (in), L1 NC (hiz), L2 CS# (in), L3 WE# (in), L7 A10/AP (in), L8 ZQ (power), L9 NC (hiz), M1 VSS (power), M2 BA0 (in), M3 BA2 (in), M7 NC(A15) (hiz), M8 VREFCA (power), M9 VSS (power), N1 VDD (power), N2 A3 (in), N3 A0 (in), N7 A12/BC# (in), N8 BA1 (in), N9 VDD (power), P1 VSS (power), P2 A5 (in), P3 A2 (in), P7 A1 (in), P8 A4 (in), P9 VSS (power), R1 VDD (power), R2 A7 (in), R3 A9 (in), R7 A11 (in), R8 A6 (in), R9 VDD (power), T1 VSS (power), T2 RESET# (in), T3 A13 (in), T7 A14 (in), T8 A8 (in), T9 VSS (power)
text: DRAM; 2048 MBit; 128Mx16

## MT41K256M16HA-125
designator DD?
256Mx16 4Gb DDR3L SDRAM; Manufacturer: Micron Technology; ItemType: IC; Package: FBGA-96 (8x14mm); PartNumber: MT41K256M16HA-125; ItemSubType: DDR3L; Mounting: SMD
footprint FBGA96_DDR3L_9x14 (Micron FBGA-96 package (Mark HA) with 0.8mm pitch, 9x14mm)
pins: A1 VDDQ (power), A2 DQU5 (io), A3 DQU7 (io), A7 DQU4 (io), A8 VDDQ (power), A9 VSS, B1 VSSQ, B2 VDD (power), B3 VSS, B7 DQSU# (io), B8 DQU6 (io), B9 VSSQ, C1 VDDQ (power), C2 DQU3 (io), C3 DQU1 (io), C7 DQSU (io), C8 DQU2 (io), C9 VDDQ (power), D1 VSSQ, D2 VDDQ (power), D3 DMU (in), D7 DQU0 (io), D8 VSSQ, D9 VDD (power), E1 VSS, E2 VSSQ, E3 DQL0 (io), E7 DML (in), E8 VSSQ, E9 VDDQ (power), F1 VDDQ (power), F2 DQL2 (io), F3 DQSL (io), F7 DQL1 (io), F8 DQL3 (io), F9 VSSQ, G1 VSSQ, G2 DQL6 (io), G3 DQSL# (io), G7 VDD (power), G8 VSS, G9 VSSQ, H1 VREFDQ, H2 VDDQ (power), H3 DQL4 (io), H7 DQL7 (io), H8 DQL5 (io), H9 VDDQ (power), J1 NC (hiz), J2 VSS, J3 RAS# (in), J7 CK (in), J8 VSS, J9 NC (hiz), K1 ODT (in), K2 VDD (power), K3 CAS# (in), K7 CK# (in), K8 VDD (power), K9 CKE (in), L1 NC (hiz), L2 CS# (in), L3 WE# (in), L7 A10/AP (in), L8 ZQ, L9 NC (hiz), M1 VSS, M2 BA0 (in), M3 BA2 (in), M7 NC(A15) (hiz), M8 VREFCA, M9 VSS, N1 VDD (power), N2 A3 (in), N3 A0 (in), N7 A12/BC# (in), N8 BA1 (in), N9 VDD (power), P1 VSS, P2 A5 (in), P3 A2 (in), P7 A1 (in), P8 A4 (in), P9 VSS, R1 VDD (power), R2 A7 (in), R3 A9 (in), R7 A11 (in), R8 A6 (in), R9 VDD (power), T1 VSS, T2 RESET# (in), T3 A13 (in), T7 A14 (in), T8 A8 (in), T9 VSS
text: DRAM; 4096 MBit; 256Mx16

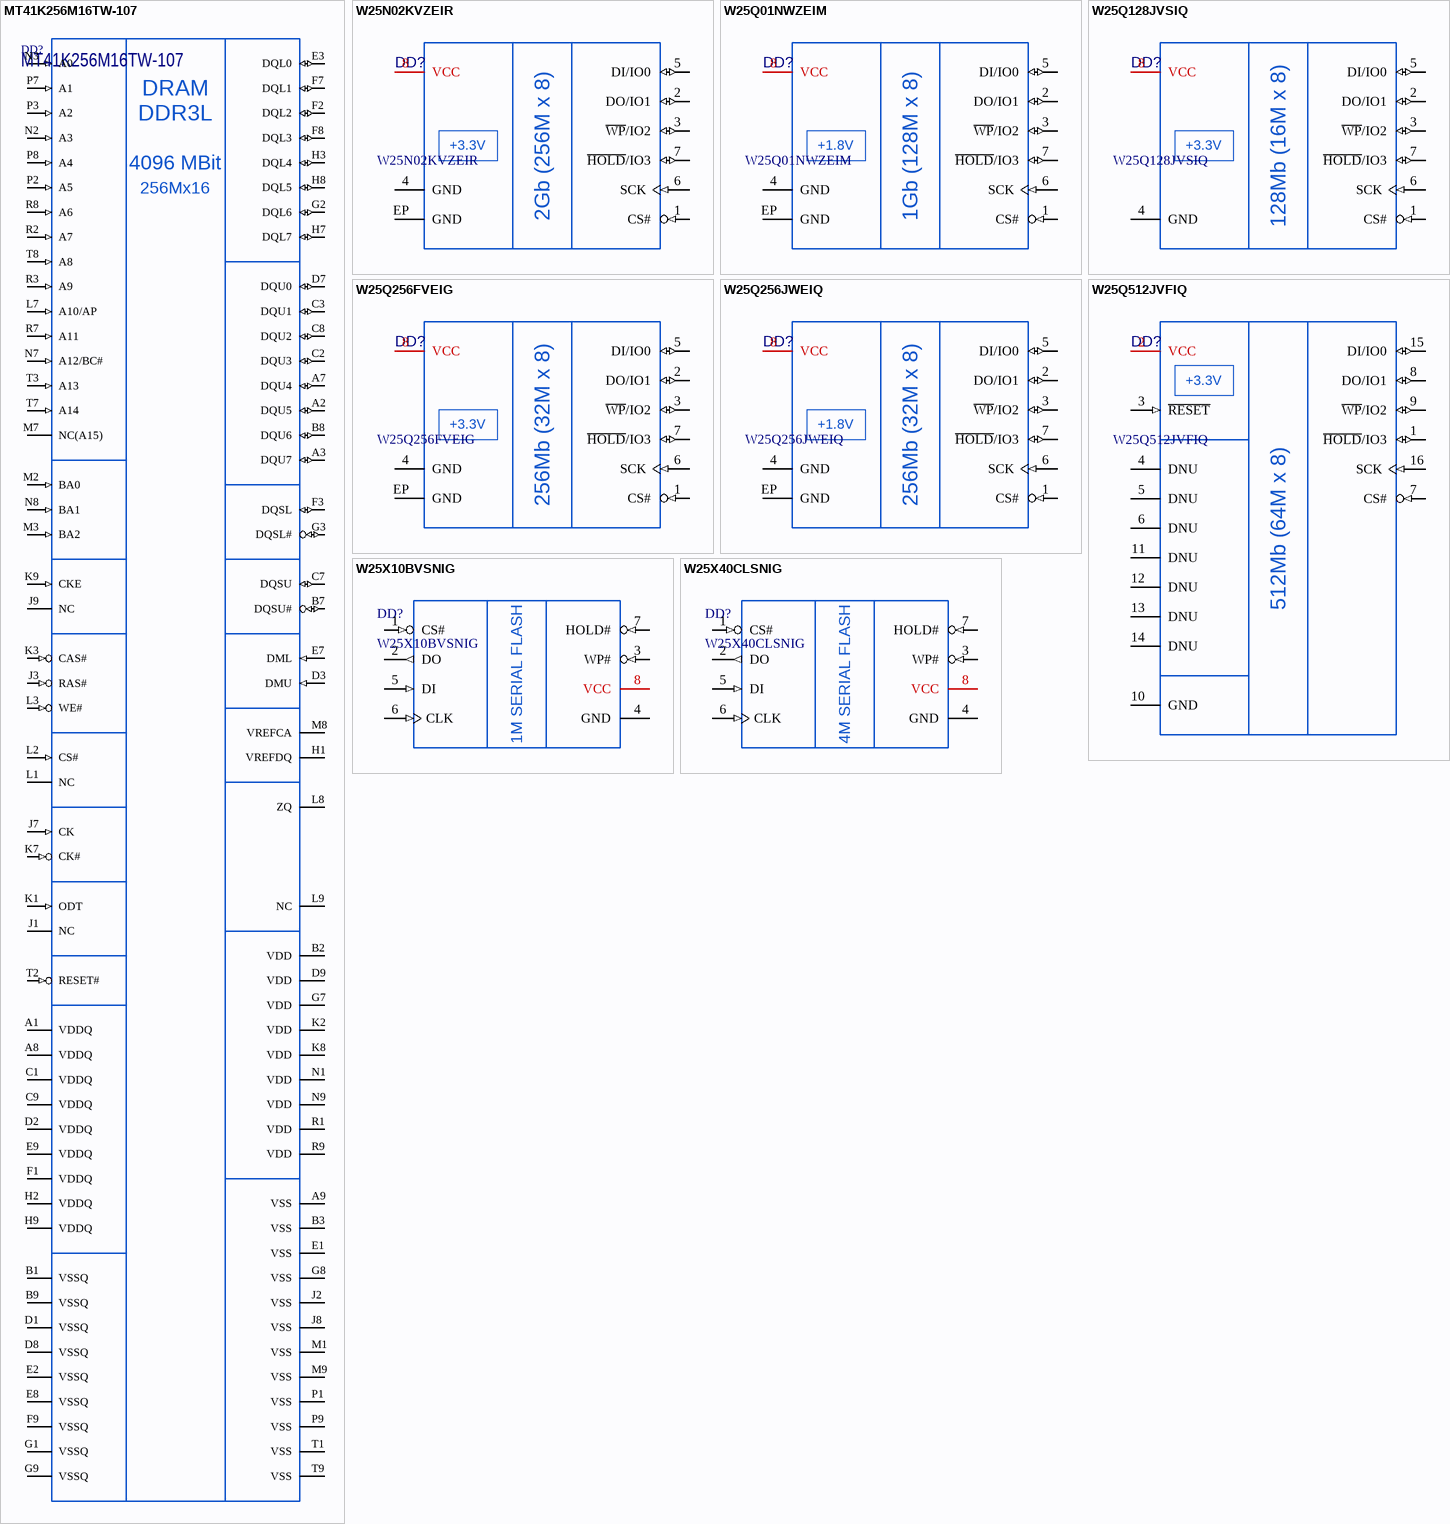
[diagram p4: symbols MT41K256M16TW-107 to W25X40CLSNIG]

## MT41K256M16TW-107
designator DD?
256Mx16 4Gb DDR3L SDRAM; Manufacturer: Micron Technology; ItemType: IC; Package: FBGA-96 (8x14mm); PartNumber: MT41K256M16TW-107; ItemSubType: DDR3L; Mounting: SMD
footprint FBGA96_DDR3L_8x14_9x14 (Micron FBGA-96 package (Mark TW) with 0.8mm pitch, 8x14mm)
pins: A1 VDDQ (power), A2 DQU5 (io), A3 DQU7 (io), A7 DQU4 (io), A8 VDDQ (power), A9 VSS, B1 VSSQ, B2 VDD (power), B3 VSS, B7 DQSU# (io), B8 DQU6 (io), B9 VSSQ, C1 VDDQ (power), C2 DQU3 (io), C3 DQU1 (io), C7 DQSU (io), C8 DQU2 (io), C9 VDDQ (power), D1 VSSQ, D2 VDDQ (power), D3 DMU (in), D7 DQU0 (io), D8 VSSQ, D9 VDD (power), E1 VSS, E2 VSSQ, E3 DQL0 (io), E7 DML (in), E8 VSSQ, E9 VDDQ (power), F1 VDDQ (power), F2 DQL2 (io), F3 DQSL (io), F7 DQL1 (io), F8 DQL3 (io), F9 VSSQ, G1 VSSQ, G2 DQL6 (io), G3 DQSL# (io), G7 VDD (power), G8 VSS, G9 VSSQ, H1 VREFDQ, H2 VDDQ (power), H3 DQL4 (io), H7 DQL7 (io), H8 DQL5 (io), H9 VDDQ (power), J1 NC (hiz), J2 VSS, J3 RAS# (in), J7 CK (in), J8 VSS, J9 NC (hiz), K1 ODT (in), K2 VDD (power), K3 CAS# (in), K7 CK# (in), K8 VDD (power), K9 CKE (in), L1 NC (hiz), L2 CS# (in), L3 WE# (in), L7 A10/AP (in), L8 ZQ, L9 NC (hiz), M1 VSS, M2 BA0 (in), M3 BA2 (in), M7 NC(A15) (hiz), M8 VREFCA, M9 VSS, N1 VDD (power), N2 A3 (in), N3 A0 (in), N7 A12/BC# (in), N8 BA1 (in), N9 VDD (power), P1 VSS, P2 A5 (in), P3 A2 (in), P7 A1 (in), P8 A4 (in), P9 VSS, R1 VDD (power), R2 A7 (in), R3 A9 (in), R7 A11 (in), R8 A6 (in), R9 VDD (power), T1 VSS, T2 RESET# (in), T3 A13 (in), T7 A14 (in), T8 A8 (in), T9 VSS
text: DRAM; 4096 MBit; 256Mx16

## W25N02KVZEIR
designator DD?
2Gbit SPI 104MHz WSON-8(6x8) FLASH; Manufacturer: Winbond; ItemType: IC; PartNumber: W25N02KVZEIR; Package: WSON-8 (8x6mm); ItemSubType: Flash; Mounting: SMD
footprint WSON8 (WSON8, 8mm x 6mm, pitch 1.27mm)
pins: 1 CS# (in) "GND", 2 DO/IO1 (io) "GND", 3 ~{WP}/IO2 (io) "GND", 4 GND, 5 DI/IO0 (io) "GND", 6 SCK (in) "GND", 7 ~{HOLD}/IO3 (io) "GND", 8 VCC (power), EP GND
1 alternate drawing of the same symbol
text: +3.3V; 2Gb (256M x 8)

## W25Q01NWZEIM
designator DD?
1Gbit SPI 104MHz WSON-8(6x8) FLASH; Manufacturer: Winbond; ItemType: IC; PartNumber: W25Q01NWZEIM; Package: WSON-8 (8x6mm); ItemSubType: Flash; Mounting: SMD
footprint WSON8 (WSON8, 8mm x 6mm, pitch 1.27mm)
pins: 1 CS# (in) "GND", 2 DO/IO1 (io) "GND", 3 ~{WP}/IO2 (io) "GND", 4 GND, 5 DI/IO0 (io) "GND", 6 SCK (in) "GND", 7 ~{HOLD}/IO3 (io) "GND", 8 VCC (power), EP GND
1 alternate drawing of the same symbol
text: +1.8V; 1Gb (128M x 8)

## W25Q128JVSIQ
designator DD?
128M-BIT SERIAL FLASH MEMORY WITH DUAL AND QUAD SPI; Manufacturer: Winbond; ItemType: IC; Marking: 25Q128JVSQ; PartNumber: W25Q128JVSIQ; Package: SOIC-8 (208 mil); ItemSubType: Flash; Mounting: SMD
footprint SOIC8_208 (SOIC, 8-Leads, Body 5.28x5.21mm, Pitch 1.27mm)
footprint SOIC8_208_AND_SOIC16N (SOIC, 8-Leads, Body 4.50x4.50mm, Pitch 1.27mm, Thermal Pad 4.20x4.20mm, IPC Medium Density with SOIC 16-Leads, Body 10.29x7.49mm, Pitch 1.27mm, IPC Medium Density)
pins: 1 CS# (in) "GND", 2 DO/IO1 (io) "GND", 3 ~{WP}/IO2 (io) "GND", 4 GND, 5 DI/IO0 (io) "GND", 6 SCK (in) "GND", 7 ~{HOLD}/IO3 (io) "GND", 8 VCC (power)
1 alternate drawing of the same symbol
text: +3.3V; 128Mb (16M x 8)

## W25Q256FVEIG
designator DD?
256Mbit SPI 104MHz WSON-8(6x8) FLASH; Manufacturer: Winbond; ItemType: IC; PartNumber: W25Q256FVEIG; Package: WSON-8 (8x6mm); ItemSubType: Flash; Mounting: SMD
footprint WSON8 (WSON8, 8mm x 6mm, pitch 1.27mm)
pins: 1 CS# (in) "GND", 2 DO/IO1 (io) "GND", 3 ~{WP}/IO2 (io) "GND", 4 GND, 5 DI/IO0 (io) "GND", 6 SCK (in) "GND", 7 ~{HOLD}/IO3 (io) "GND", 8 VCC (power), EP GND
1 alternate drawing of the same symbol
text: +3.3V; 256Mb (32M x 8)

## W25Q256JWEIQ
designator DD?
256Mbit SPI 133MHz WSON-8(6x8) FLASH; Manufacturer: Winbond; ItemType: IC; PartNumber: W25Q256JWEIQ; Package: WSON-8 (8x6mm); ItemSubType: Flash; Mounting: SMD
footprint WSON8 (WSON8, 8mm x 6mm, pitch 1.27mm)
pins: 1 CS# (in) "GND", 2 DO/IO1 (io) "GND", 3 ~{WP}/IO2 (io) "GND", 4 GND, 5 DI/IO0 (io) "GND", 6 SCK (in) "GND", 7 ~{HOLD}/IO3 (io) "GND", 8 VCC (power), EP GND
1 alternate drawing of the same symbol
text: +1.8V; 256Mb (32M x 8)

## W25Q512JVFIQ
designator DD?
512M-BIT SERIAL FLASH MEMORY WITH DUAL AND QUAD SPI; Manufacturer: Winbond; ItemType: IC; Marking: 25Q512JVFQ; PartNumber: W25Q512JVFIQ; Package: SOIC-16 (300 mil); ItemSubType: Flash; Mounting: SMD
footprint SOIC16N_JEDEC_MS013AA (SOIC16 300mil, 16-Leads, Body 7.5x10.3mm)
footprint SOIC16N_AND_SOIC8_208 (SOIC16 300mil, 16-Leads, Body 7.5x10.3mm)
footprint SOIC16N_TFBGA24_QSPI (SOIC16 300mil, 16-Leads, Body 7.5x10.3mm)
pins: 1 ~{HOLD}/IO3 (io) "GND", 2 VCC (power), 3 ~{RESET} (in) "GND", 4 DNU (hiz) "GND", 5 DNU (hiz) "GND", 6 DNU (hiz) "GND", 7 CS# (in) "GND", 8 DO/IO1 (io) "GND", 9 ~{WP}/IO2 (io) "GND", 10 GND, 11 DNU (hiz) "GND", 12 DNU (hiz) "GND", 13 DNU (hiz) "GND", 14 DNU (hiz) "GND", 15 DI/IO0 (io) "GND", 16 SCK (in) "GND"
1 alternate drawing of the same symbol
text: +3.3V; 512Mb (64M x 8)

## W25X10BVSNIG
designator DD?
1M-BIT [x1] Cmos Serial Flash Memory; Manufacturer: Winbond; ItemType: IC; PartNumber: W25X10BVSNIG; Package: SOIC-8; ItemSubType: Flash; Mounting: SMD
footprint SOIC8_JEDEC_MS012AA (SOIC, 8-Leads, Body 3.90x4.90mm, Pitch 1.27mm)
pins: 1 CS# (in), 2 DO (out), 3 WP# (in), 4 GND, 5 DI (in), 6 CLK (in), 7 HOLD# (in), 8 VCC (power)
text: 1M SERIAL FLASH

## W25X40CLSNIG
designator DD?
4M-BIT [x1] Cmos Serial Flash Memory; Manufacturer: Winbond; ItemType: IC; PartNumber: W25X40CLSNIG; Package: SOIC-8; ItemSubType: Flash; Mounting: SMD
footprint SOIC8_JEDEC_MS012AA (SOIC, 8-Leads, Body 3.90x4.90mm, Pitch 1.27mm)
pins: 1 CS# (in), 2 DO (out), 3 WP# (in), 4 GND, 5 DI (in), 6 CLK (in), 7 HOLD# (in), 8 VCC (power)
text: 4M SERIAL FLASH